# Altium footprint library HRS_DF61_2P_1.PcbLib: 1 footprints
Each footprint in its own frame and in the unit in brackets; x right, y up, seen from the top. Pads: shape width x height; smd on the part's side, far side on the other; paste and mask are expansions set on the pad; w line width, h text height; cw(c..) or ccw(c..) is an arc to the next point about the centre after c.
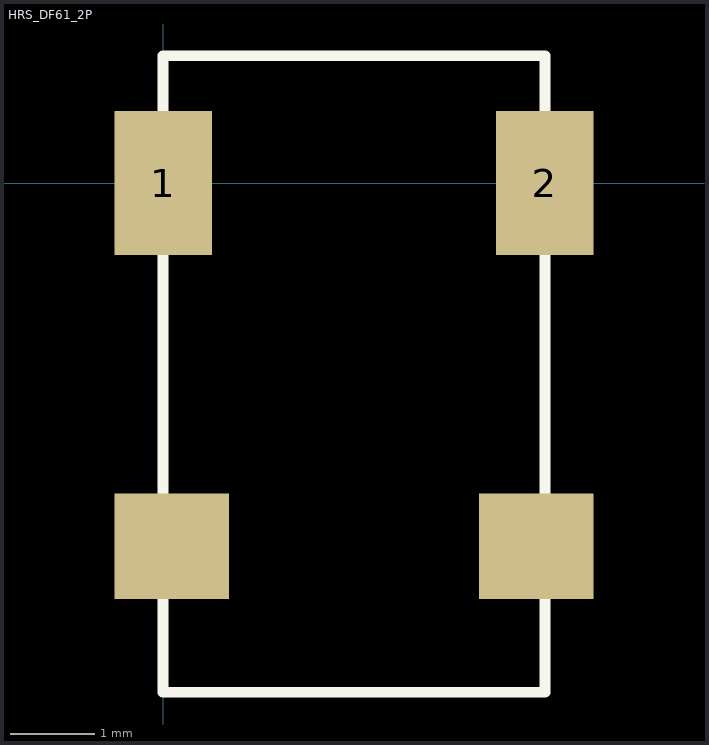
[diagram p0: the footprint, top view; thin cyan lines are the x and y axes]

## HRS_DF61_2P [mm]
pads (4):
  rect 1.15x1.7 smd: 1(0,0) 2(4.5,0)
  rect 1.35x1.24 smd: ""(0.1,-4.28) ""(4.4,-4.28)
Top Overlay:
  lines w0.127: 0,-6 4.5,-6 4.5,1.5 0,1.5 0,-6